# Altium footprint library NSL-19M51.PcbLib: 1 footprints
Each footprint in its own frame and in the unit in brackets; x right, y up, seen from the top. Pads: shape width x height; smd on the part's side, far side on the other; paste and mask are expansions set on the pad; w line width, h text height; cw(c..) or ccw(c..) is an arc to the next point about the centre after c.
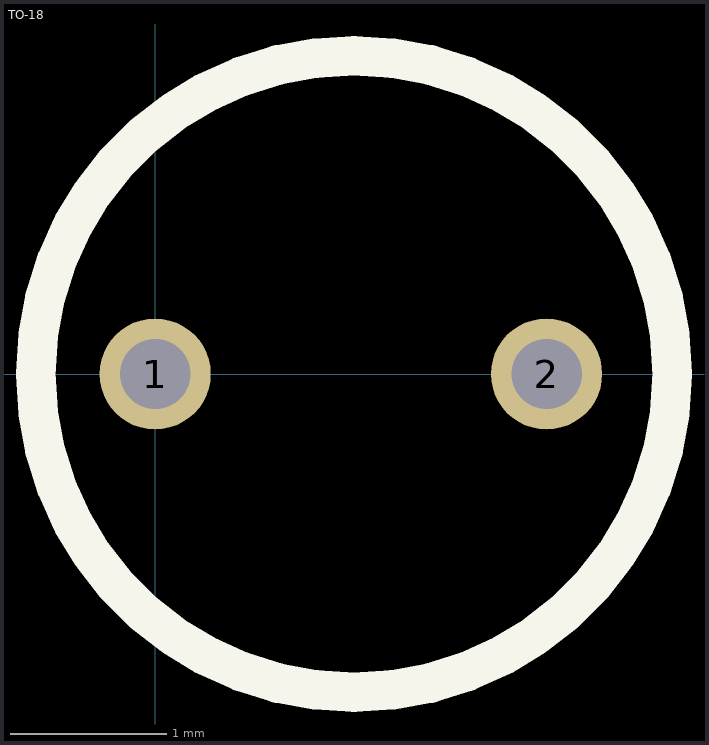
[diagram p0: the footprint, top view; thin cyan lines are the x and y axes]

## TO-18 [mm]
pads (3):
  round 0.71 hole 0.45: 1(0,0) 1(0,0) 2(2.5,0)
Top Overlay:
  circle w0.254: c1.27,0 r2.032